# EAGLE library part MCP6H01-E/SN (library MCP6H01)
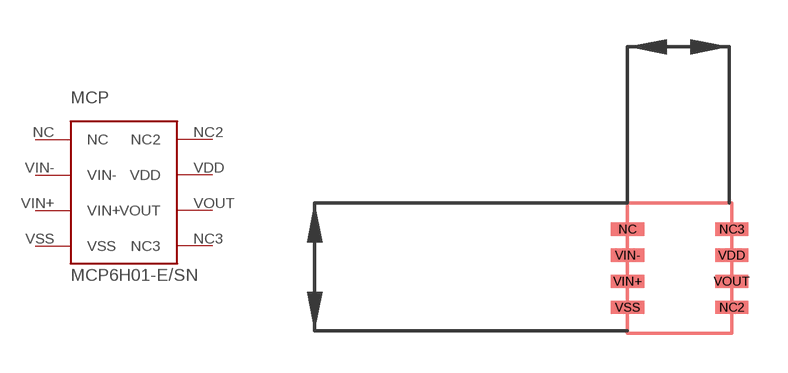
[diagram p0: symbol with the pads of MCP6H01-E/SN; footprint MCP6H01-E/SN]

Designator prefix MCP

## MCP6H01-E/SN  [MCP6H01-E/SN]
NC  NC
NC2  NC2
NC3  NC3
VDD  VDD
VIN+  VIN+
VIN-  VIN-
VOUT  VOUT
VSS  VSS

## Footprint MCP6H01-E/SN (pad centres in mm)
smd 1.27 x 0.51: NC 0,-1; NC2 4,-4; NC3 4,-1; VDD 4,-2; VIN+ 0,-3; VIN- 0,-2; VOUT 4,-3; VSS 0,-4